# EAGLE library part HEADERS(2MM)_1X6 (library Tracksoar v2 )
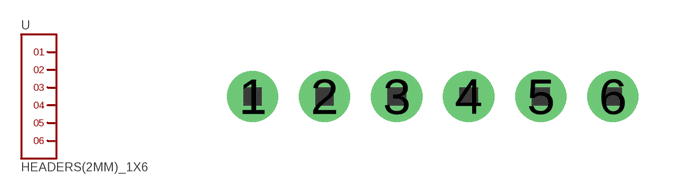
[diagram p5: symbol with the pads of HEADERS(2MM)_1X6; footprint HEADERS(2MM)_1X6]

Designator prefix -

## HEADERS(2MM)_1X6  [HEADERS(2MM)_1X6]
1  1
2  2
3  3
4  4
5  5
6  6

## Footprint HEADERS(2MM)_1X6 (pad centres in mm)
drill 0.8 pad 1.422: 1 -5,0; 2 -3,0; 3 -1,0; 4 1,0; 5 3,0; 6 5,0